# EAGLE library part LM5007 (library m_vreg)
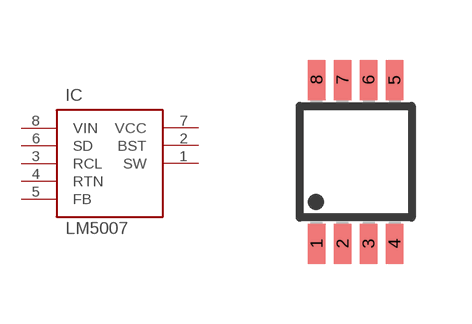
[diagram p2: symbol with the pads of MSOP8; footprint MSOP8]

Designator prefix IC

## LM5007  [MSOP8]
1  SW
2  BST
3  RCL
4  RTN
5  FB
6  SD
7  VCC
8  VIN

## Footprint MSOP8 (pad centres in mm)
Micro Small Outline Package
smd 0.44 x 1: 1 -0.975,-2.05; 2 -0.325,-2.05; 3 0.325,-2.05; 4 0.975,-2.05; 5 0.975,2.05; 6 0.325,2.05; 7 -0.325,2.05; 8 -0.975,2.05